# Altium footprint library LT-MS8E-8-1880X1680TP_M.PcbLib: 1 footprints
Each footprint in its own frame and in the unit in brackets; x right, y up, seen from the top. Pads: shape width x height; smd on the part's side, far side on the other; paste and mask are expansions set on the pad; w line width, h text height; cw(c..) or ccw(c..) is an arc to the next point about the centre after c.
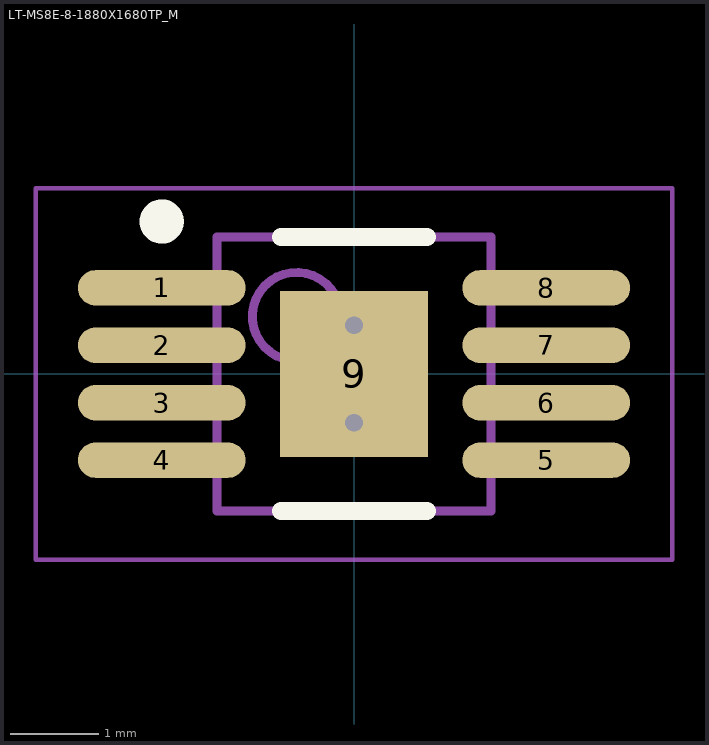
[diagram p0: the footprint, top view; thin cyan lines are the x and y axes]

## LT-MS8E-8-1880X1680TP_M [mm] "SOP, 8-Leads, Body 3x3mm, Pitch 0.65mm, Thermal Pad 1.88x1.68mm, IPC Low Density"
height 1.1
pads (9):
  oval 1.9x0.4 smd: 1(-2.175,0.975) 2(-2.175,0.325) 3(-2.175,-0.325) 4(-2.175,-0.975) 5(2.175,-0.975) 6(2.175,-0.325) 7(2.175,0.325) 8(2.175,0.975)
  rect 1.68x1.88 smd: 9(0,0)
via 0,0.55 diameter 0.5 hole 0.2
via 0,-0.55 diameter 0.5 hole 0.2
Top Overlay:
  circle w0.25: c-2.175,1.725 r0.125
  lines w0.2: -0.825,-1.55 0.825,-1.55 ; -0.825,1.55 0.825,1.55
Mechanical 13:
  circle w0.1: c-0.65,0.65 r0.5
  lines w0.1: -1.55,-1.55 -1.55,1.55 1.55,1.55 1.55,-1.55 -1.55,-1.55
Mechanical 15:
  lines w0.05: -3.6,-2.1 -3.6,2.1 3.6,2.1 3.6,-2.1 -3.6,-2.1
  lines w0.1: -0.5,0 0.5,0 ; 0,-0.5 0,0.5
3D body: height 1.1, standoff 0.05, extent -1.55,-1.55 1.55,1.55